# EAGLE library part MCP24LC256 (library thomas_library)
The MCP24LC256 is an I2C 256kbit EEPROM from Microchip.
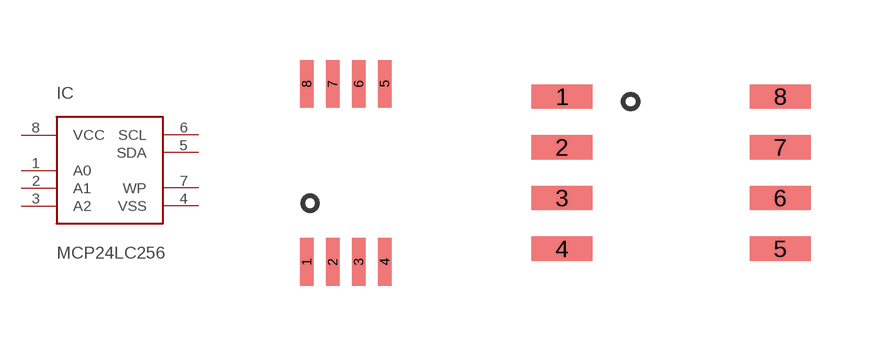
[diagram p22: symbol with the pads of MSOP_8; footprints MSOP_8, SO_8]

Designator prefix IC

## MCP24LC256_MSOP  [MSOP_8]
1  A0
2  A1
3  A2
4  VSS
5  SDA
6  SCL
7  WP
8  VCC

## MCP24LC256_SOIC  [SO_8]
Pads as for MSOP_8

## Footprint MSOP_8 (pad centres in mm)
smd 0.34 x 1.19: 1 -0.975,-2.23; 2 -0.325,-2.23; 3 0.325,-2.23; 4 0.975,-2.23; 5 0.975,2.23; 6 0.325,2.23; 7 -0.325,2.23; 8 -0.975,2.23

## Footprint SO_8 (pad centres in mm)
smd 1.524 x 0.61: 1 -2.731,1.905; 2 -2.731,0.635; 3 -2.731,-0.635; 4 -2.731,-1.905; 5 2.731,-1.905; 6 2.731,-0.635; 7 2.731,0.635; 8 2.731,1.905